# Altium footprint library Smart_Podium.PcbLib: 28 footprints (part 2 of 2)
Each footprint in its own frame and in the unit in brackets; x right, y up, seen from the top. Pads: shape width x height; smd on the part's side, far side on the other; paste and mask are expansions set on the pad; w line width, h text height; cw(c..) or ccw(c..) is an arc to the next point about the centre after c.
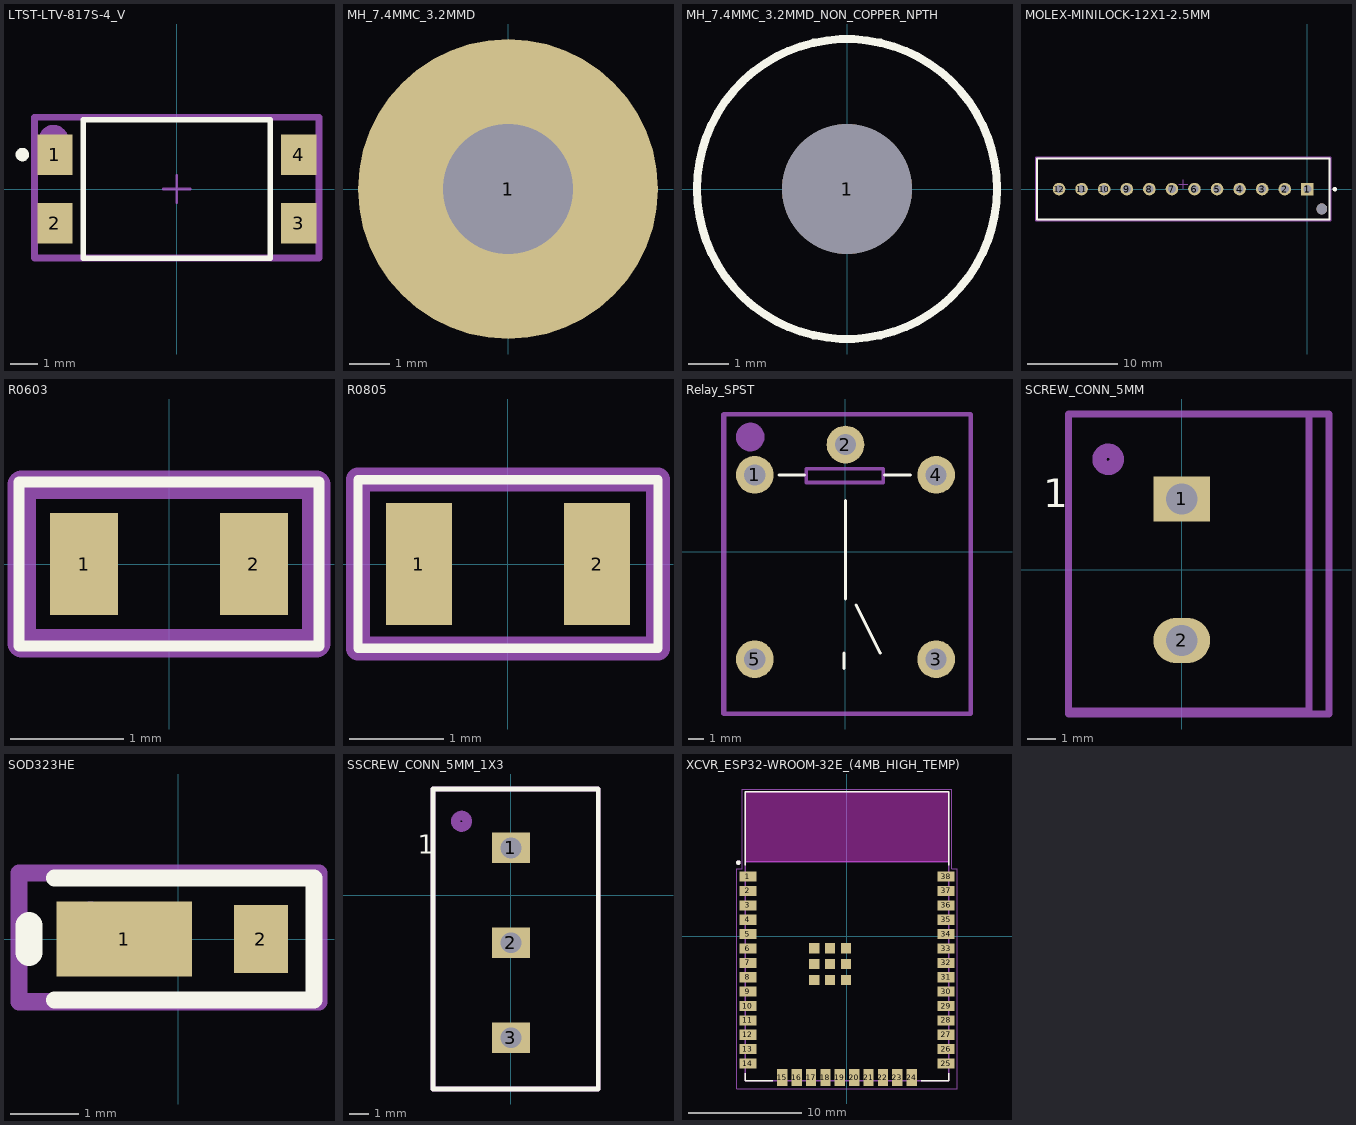
[diagram p1: the footprints below, top view; thin cyan lines are the x and y axes]

## LTST-LTV-817S-4_V [mm] "SMD, 4-Leads, Body 7x5.1mm, Pitch 2.54mm"
height 4.396
pads (4):
  rect 1.3x1.5 smd: 1(-4.5,1.27) 2(-4.5,-1.27) 3(4.5,-1.27) 4(4.5,1.27)
Top Overlay:
  circle w0.25: c-5.7,1.27 r0.125
  lines w0.2: -3.45,-2.55 3.45,-2.55 3.45,2.55 -3.45,2.55 -3.45,-2.55
Top Courtyard:
  lines w0.05: -5.25,-2.65 5.25,-2.65 5.25,2.65 -5.25,2.65 -5.25,-2.65
  lines w0.1: -0.5,0 0.5,0 ; 0,-0.5 0,0.5
Assembly Drawings:
  lines w0.254: -5.25,-2.55 5.25,-2.55 5.25,2.65 -5.25,2.65 -5.25,-2.55
  lines w0.5: -4.272,1.918 ccw(c-4.55,1.825) -4.257,1.825
  text ".Designator" at -1.082,-0.252 h1.27
3D body "LTV-817S-TA1-C.STEP": height 4.6, standoff 0, extent -5.08,-2.35 5.08,2.25

## MH_7.4MMC_3.2MMD [mm]
pads (1):
  round 7.4 hole 3.2: 1(0,0)

## MH_7.4MMC_3.2MMD_NON_COPPER_NPTH [mm]
pads (1):
  round 3.2 hole 3.2 unplated: 1(0,0)
Top Overlay:
  circle w0.2: c0,0 r3.7

## MOLEX-MINILOCK-12X1-2.5MM [mm]
pads (13):
  rect 1.4x1.4 hole 0.9 paste-1000 mask+0: 1(0,0)
  round 1.4 hole 0.9 paste-1000 mask+0: 2(-2.5,0) 3(-5,0) 4(-7.5,0) 5(-10,0) 6(-12.5,0) 7(-15,0) 8(-17.5,0) 9(-20,0) 10(-22.5,0) 11(-25,0) 12(-27.5,0)
  round 1.2 hole 1.2: ""(1.6,-2.2)
Top Overlay:
  circle w0.25: c3.05,0 r0.125
  lines w0.2: -29.95,-3.375 2.45,-3.375 2.45,3.4 -29.95,3.4 -29.95,-3.375
Top Courtyard:
  lines w0.2: -30.05,-3.475 2.55,-3.475 2.55,3.5 -30.05,3.5 -30.05,-3.475
Top Component Center:
  lines w0.1: -14.25,0.525 -13.25,0.525 ; -13.75,0.025 -13.75,1.025
Assembly Drawings:
  lines w0.2: -30.05,-3.45 2.55,-3.45 2.55,3.5 -30.05,3.5 -30.05,-3.45
  text ".Designator" at -13.75,0.713 h1
3D body "Molex Minilock 12x1.STEP": height 11.55, standoff -3.38, extent -30.025,-3.375 2.375,3.425

## PCBComponent_1 [mm]

## R0603 [mm]
pads (2):
  rect 0.6x0.9 smd mask+0.05: 1(-0.75,0) 2(0.75,0)
Top Overlay:
  lines w0.1: -1.325,-0.725 -1.325,0.725 1.325,0.725 1.325,-0.725 -1.325,-0.725
Assembly Drawings:
  lines w0.254: -1.3,-0.7 1.3,-0.7 1.3,0.7 -1.3,0.7 -1.3,-0.7
  text ".Designator" at -1,-0.3 h0.6
3D body "R0603.STEP": height 0.56, standoff 0.01, extent -0.8,-0.4 0.8,0.4

## R0805 [mm]
pads (2):
  rect 0.7x1.3 smd mask+0.05: 1(-0.95,0) 2(0.95,0)
Top Overlay:
  lines w0.1: -1.6,-0.9 1.6,-0.9 1.6,0.9 -1.6,0.9 -1.6,-0.9
Assembly Drawings:
  lines w0.254: -1.6,-0.9 -1.6,0.9 1.6,0.9 1.6,-0.9 -1.6,-0.9
  text ".Designator" at -1.2,-0.467 h1
3D body "R0805.STEP": height 0.61, standoff 0.01, extent -1,-0.625 1,0.625

## Relay_SPST [mm]
pads (5):
  round 2.5 hole 1.4: 1(-6,5.1) 2(0,7.1) 3(6,-7.1) 4(6,5.1) 5(-6,-7.1)
Top Overlay:
  lines w0.2: -4.4,5.1 -2.7,5.1 ; -0.1,-7.7 -0.1,-6.7 ; 0,-3.1 0,-2.9 0,3.4 ; 0.7,-3.5 2.3,-6.7 ; 2.582,5.103 4.3,5.103
Assembly Drawings:
  circle w1: c-6.3,7.6 r0.447
  lines w0.254: 8.3,-10.7 -8.1,-10.7 -8.1,9.1 8.3,9.1 ; 8.3,-10.7 8.3,9.1 ; 8.3,-10.7 -8,-10.7 -8,9.1 8.3,9.1 ; 8.3,-10.7 8.3,9.1 ; -8.05,-10.725 8.275,-10.725 8.275,9.125 -8.05,9.125 -8.05,-10.725 ; -2.6,4.6 2.5,4.6 2.5,5.5 -2.6,5.5 -2.6,4.6
  text ".Designator" at -1.8,-1.8 h1.5
3D body "SPST_RELAY.stp": height 14.71, standoff -3.99, extent -7.65,-10.4 7.85,8.8

## SCREW_CONN_5MM [mm]
pads (2):
  rect 2x1.6 hole 1.1: 1(0,2.5)
  oval 2x1.6 hole 1.1: 2(0,-2.5)
Top Overlay:
  text "1" at -4.9,2.2 h1
Assembly Drawings:
  circle w0.5: c-2.6,3.9 r0.305
  lines w0.254: -4,-5.1 5.2,-5.1 ; -4,-5.1 -4,5.5 ; -4,-5.1 5.2,-5.1 ; -4,-5.1 -4,5.5 ; -4,5.5 4.5,5.5 4.5,-5 -4,-5 -4,5.5 ; -4,5.5 5.2,5.5 ; -4,5.5 5.2,5.5 ; 5.2,-5.1 5.2,5.5 ; 5.2,-5.1 5.2,5.5
  text ".Designator" at -2.546,-0.238 h1.52
3D body "1X2 SCREW_CONN.STEP": height 11.41, standoff -3.49, extent -3.9,-5 5.1,5.4

## SOD323HE [mm]
pads (2):
  rect 2x1.1 smd: 1(-0.8,0)
  rect 0.8x1 smd: 2(1.219,0)
Top Overlay:
  lines w0.254: -1.825,-0.9 2,-0.9 2,0.9 -1.825,0.9
  lines w0.4: -2.2,-0.2 -2.2,0.2
Assembly Drawings:
  circle w0.5: c-1.3,0.2 r0.1
  lines w0.254: -2.35,-0.925 2.075,-0.925 2.075,0.975 -2.35,0.975 -2.35,-0.925
  text ".Designator" at -0.7,-0.367 h1
3D body "SOD_SS13HE_ONS.step": height 0.76, standoff 0, extent -1.346,-0.698 1.346,0.698

## SSCREW_CONN_5MM_1X3 [mm]
pads (3):
  rect 2x1.6 hole 1.1: 1(0,2.5) 2(0,-2.5) 3(0,-7.5)
Top Overlay:
  lines w0.254: -4.1,-10.2 -4.1,5.6 4.6,5.6 4.6,-10.2 -4.1,-10.2
  text "1" at -4.9,2.2 h1
Assembly Drawings:
  circle w0.5: c-2.6,3.9 r0.305
  lines w0.254: -4.1,-10.2 4.6,-10.2 4.6,5.6 -4.1,5.6 -4.1,-10.2
  text ".Designator" at -2.546,-4.638 h1.52
3D body "1X3 SCREW_CONN.stp": height 11.41, standoff -3.49, extent -4,-10.085 5,5.485

## XCVR_ESP32-WROOM-32E_(4MB_HIGH_TEMP) [mm]
pads (47):
  rect 1.5x0.9 smd mask+0.05: 1(-8.75,5.26) 2(-8.75,3.99) 3(-8.75,2.72) 4(-8.75,1.45) 5(-8.75,0.18) 6(-8.75,-1.09) 7(-8.75,-2.36) 8(-8.75,-3.63) 9(-8.75,-4.9) 10(-8.75,-6.17) 11(-8.75,-7.44) 12(-8.75,-8.71) 13(-8.75,-9.98) 14(-8.75,-11.25) 25(8.75,-11.25) 26(8.75,-9.98) 27(8.75,-8.71) 28(8.75,-7.44) 29(8.75,-6.17) 30(8.75,-4.9) 31(8.75,-3.63) 32(8.75,-2.36) 33(8.75,-1.09) 34(8.75,0.18) 35(8.75,1.45) 36(8.75,2.72) 37(8.75,3.99) 38(8.75,5.26)
  rect 0.9x1.5 smd mask+0.05: 15(-5.715,-12.5) 16(-4.445,-12.5) 17(-3.175,-12.5) 18(-1.905,-12.5) 19(-0.635,-12.5) 20(0.635,-12.5) 21(1.905,-12.5) 22(3.175,-12.5) 23(4.445,-12.5) 24(5.715,-12.5)
  rect 0.9x0.9 smd mask+0.05: 39_1(-2.9,-1.06) 39_2(-1.5,-1.06) 39_3(-0.1,-1.06) 39_4(-2.9,-2.46) 39_5(-1.5,-2.46) 39_6(-0.1,-2.46) 39_7(-2.9,-3.86) 39_8(-1.5,-3.86) 39_9(-0.1,-3.86)
Top Overlay:
  circle w0.2: c-9.6,6.5 r0.1
  lines w0.127: -9,-12.1 -9,-12.75 -6.55,-12.75 ; -9,6.25 -9,12.75 9,12.75 9,6.25 ; 6.55,-12.75 9,-12.75 9,-12.1
Keep-Out Layer:
  region: 9,6.56 -9,6.56 -9,12.75 9,12.75
Top Courtyard:
  lines w0.05: -9.75,-13.5 -9.75,5.96 -9.25,5.96 -9.25,13 9.25,13 9.25,5.96 9.75,5.96 9.75,-13.5 -9.75,-13.5
Assembly Drawings:
  circle w0.2: c-9.6,6.5 r0.1
  lines w0.127: -9,6.56 9,6.56 ; -9,6.56 -9,12.75 9,12.75 9,6.56 ; -9,6.56 -9,-12.75 9,-12.75 9,6.56
  text "ANTENNA" at -6,9 h1.78
3D body "step_temp.STEP": height 3.25, standoff 0, extent -9,-12.75 9,12.75